# Altium footprint library UCC28180-V04.PcbLib: 54 footprints (part 4 of 4)
Each footprint in its own frame and in the unit in brackets; x right, y up, seen from the top. Pads: shape width x height; smd on the part's side, far side on the other; paste and mask are expansions set on the pad; w line width, h text height; cw(c..) or ccw(c..) is an arc to the next point about the centre after c.
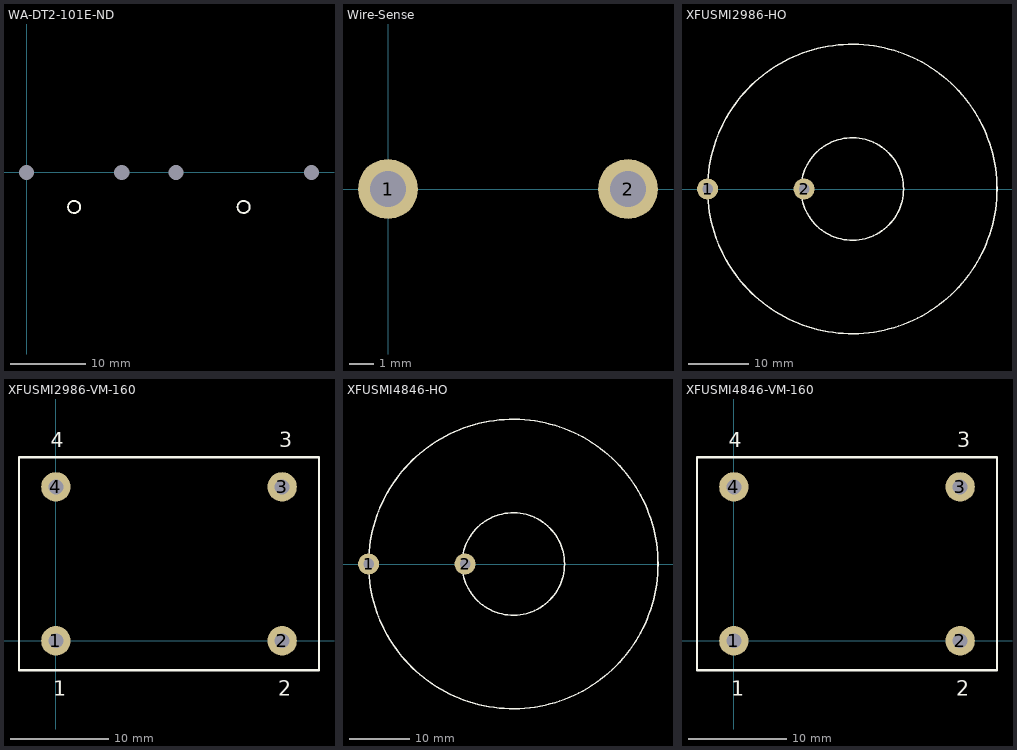
[diagram p3: the footprints below, top view; thin cyan lines are the x and y axes]

## WA-DT2-101E-ND [mm] "Heatsunk"
pads (4):
  round 0 / inner round 0 / far side round 3 hole 2: 1(0,0) 2(12.7,0) 3(19.9,0) 4(38,0)
Top Overlay:
  circle w0.254: c28.95,-4.6 r0.806
  circle w0.254: c6.35,-4.6 r0.806
3D body: height 7.25, standoff -13, extent -5,0 43,7
3D body: height 7.25, standoff -13, extent -5,-9 -3,0
3D body: height 7.25, standoff -13, extent 41,-9 43,0

## Wire-Sense [mm] "Current Sense"
pads (2):
  round 2.5 hole 1.5: 1(0,0) 2(10,0)

## XFUSMI2986-HO [mm] "Boost Inductor"
pads (2):
  round 3.5 hole 1.75: 1(20,0) 2(36,0)
Top Overlay:
  circle w0.254: c44,0 r8.5
  circle w0.254: c44,0 r24
3D body "Inductor-XFMRS1642.STEP": height 22.87, standoff 0.01, extent 20.269,-23.724 67.767,23.774

## XFUSMI2986-VM-160 [mm] "Boost Inductor"
pads (4):
  round 3 hole 1.5: 1(0,0) 2(23,0) 3(23,15.65) 4(0,15.65)
Top Overlay:
  lines w0.254: -3.75,-3 -3.75,18.65 26.75,18.65 26.75,-3 -3.75,-3
  text "4" at -0.508,19.685 h1.52
  text "3" at 22.733,19.685 h1.52
  text "2" at 22.606,-5.588 h1.52
  text "1" at -0.254,-5.588 h1.52

## XFUSMI4846-HO [mm] "Boost Inductor"
pads (2):
  round 3.5 hole 1.75: 1(20,0) 2(36,0)
Top Overlay:
  circle w0.254: c44,0 r24
  circle w0.254: c44,0 r8.5
3D body "Inductor-XFMRS1642.STEP": height 22.87, standoff 0.01, extent 19.939,-23.063 67.437,24.435

## XFUSMI4846-VM-160 [mm] "Boost Inductor"
pads (4):
  round 3 hole 1.5: 1(0,0) 2(23,0) 3(23,15.65) 4(0,15.65)
Top Overlay:
  lines w0.254: -3.75,-3 -3.75,18.65 26.75,18.65 26.75,-3 -3.75,-3
  text "4" at -0.508,19.685 h1.52
  text "3" at 22.733,19.685 h1.52
  text "2" at 22.606,-5.588 h1.52
  text "1" at -0.254,-5.588 h1.52